# Altium schematic symbol library TPS56339DDCR.SchLib: 1 symbol
Pins are listed as number, name and electrical type; pins without a type are passive.

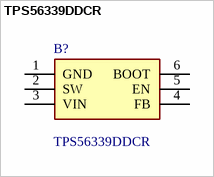
[diagram p0: symbol TPS56339DDCR]

## TPS56339DDCR
designator B?
4.5-V to 24-V input, 3-A output synchronous buck converter; Manufacturer_Name: Texas Instruments; Geometry.Height: 1.1mm; Mouser Part Number: 595-TPS56339DDCR; Mouser Price/Stock: https://www.mouser.co.uk/ProductDetail/Texas-Instruments/TPS56339DDCR?qs=T3oQrply3y%2FnX4YgbxZYZA%3D%3D; Manufacturer_Part_Number: TPS56339DDCR; Datasheet Link: http://www.ti.com/lit/gpn/TPS56339
footprint SOT95P280X110-6N
pins: 1 GND, 2 SW, 3 VIN, 4 FB, 5 EN, 6 BOOT